# EAGLE library part XCA204 (library mmWAVE)
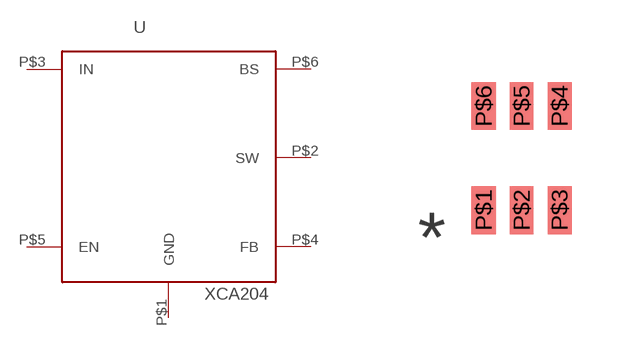
[diagram p9: symbol with the pads of XCA204; footprint XCA204]

Designator prefix -

## XCA204  [XCA204]
P$1  GND
P$2  SW
P$3  IN
P$4  FB
P$5  EN
P$6  BS

## Footprint XCA204 (pad centres in mm)
smd 0.6 x 1.2: P$1 -0.95,-1.3; P$2 0,-1.3; P$3 0.95,-1.3; P$4 0.95,1.3; P$5 0,1.3; P$6 -0.95,1.3